# Altium schematic symbol library CapFilm_polyester_passive.SchLib: 8 symbols
Pins are listed as number, name and electrical type; pins without a type are passive.

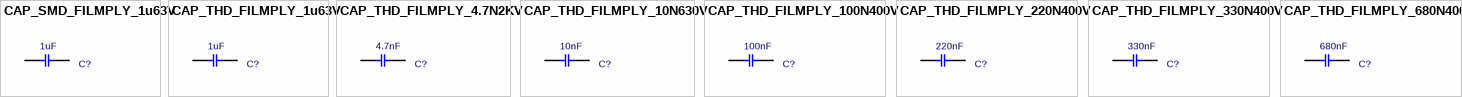
[diagram p0: symbols CAP_SMD_FILMPLY_1u63V to CAP_THD_FILMPLY_680N400V]

## CAP_SMD_FILMPLY_1u63V
designator C?, comment 1uF
CAP, FILM; PARAM: PET, 10%, -55~125oC; DESC: CAP, FILM,; MANF_P#: SMDTC04100QB00KQ00; MANF: WIMA; PARAM2: 63VDC/40VAC; PRICE: 2$; ASSEMBLY: ASSEMBLY; VALUE: 1uF
footprint C2225 (Chip Capacitor, 5.6x6.4mm, 2225, 5664, 2220)
pins: 1, 2

## CAP_THD_FILMPLY_1u63V
designator C?, comment 1uF
CAP, FILM; PARAM: PET, 5%, AEC-Q200, -55~125oC; DESC: CAP, FILM,; MANF_P#: MKS2C041001F00JA00; MANF: WIMA; PARAM2: 63VDC/40VAC; PRICE: 0.37$; ASSEMBLY: ASSEMBLY; VALUE: 1uF
footprint C_PLY_7X5X10 (CAP, POLYESTER, 7.0X5.0x10mm pitch: 5.0mm)
pins: 1, 2

## CAP_THD_FILMPLY_4.7N2KV
designator C?, comment 4.7nF
CAP, FILM, 4.7nF, 2KV; PARAM: 5%, -55~105°C; MANF_P#: R747I1470AA00J; MANF: KEMET; PRICE: 0.6$; DESC: CAP, FILM,; PARAM2: 2KV; ASSEMBLY: ASSEMBLY; VALUE: 4.7nF
footprint C_PLY_19X8 (CAP, POLYESTER, 19.0X8.0mm pitch: 15.0mm, 0.22uF 400V)
pins: 1, 2

## CAP_THD_FILMPLY_10N630V
designator C?, comment 10nF
CAP, FILM, 10nF, 630V; MANF_P#: MANF_PART#; PARAM: 630V; PRICE: 100= 1$; DESC: CAP, FILM,; MANF: MANF; PARAM2: PARAM2; ASSEMBLY: ASSEMBLY; VALUE: 10nF
footprint C_PLY_13X5 (Footprint not found)
pins: 1, 2

## CAP_THD_FILMPLY_100N400V
designator C?, comment 100nF
CAP, FILM, 330nF, 400V; MANF_P#: MANF_PART#; PARAM: 400V; PRICE: 100= 1$; DESC: CAP, FILM,; MANF: MANF; PARAM2: PARAM2; ASSEMBLY: ASSEMBLY; VALUE: 100nF
footprint C_PLY_9X6 (Footprint not found)
pins: 1, 2

## CAP_THD_FILMPLY_220N400V
designator C?, comment 220nF
CAP, FILM, 220nF, 400V; MANF_P#: MANF_PART#; PARAM: 400V; PRICE: 100= 1$; DESC: CAP, FILM,; MANF: MANF; PARAM2: PARAM2; ASSEMBLY: ASSEMBLY; VALUE: 220nF
footprint C_PLY_19X8 (CAP, POLYESTER, 19.0X8.0mm pitch: 15.0mm, 0.22uF 400V)
pins: 1, 2

## CAP_THD_FILMPLY_330N400V
designator C?, comment 330nF
CAP, FILM, 330nF, 400V; MANF_P#: MANF_PART#; PARAM: 400V; PRICE: 100= 1$; DESC: CAP, FILM,; MANF: MANF; PARAM2: PARAM2; ASSEMBLY: ASSEMBLY; VALUE: 330nF
footprint C_PLY_24X6 (Footprint not found)
pins: 1, 2

## CAP_THD_FILMPLY_680N400V
designator C?, comment 680nF
CAP, FILM, 330nF, 400V; MANF_P#: MANF_PART#; PARAM: 400V; PRICE: 100= 1$; DESC: CAP, FILM,; MANF: MANF; PARAM2: PARAM2; ASSEMBLY: ASSEMBLY; VALUE: 680nF
footprint C_PLY_22X7 (CAP, POLYESTER, 33.0X7.0mm pitch: 20.0mm, 0.68uF 400V)
pins: 1, 2